# Altium footprint library VQFN-24P-001.PcbLib: 1 footprints
Each footprint in its own frame and in the unit in brackets; x right, y up, seen from the top. Pads: shape width x height; smd on the part's side, far side on the other; paste and mask are expansions set on the pad; w line width, h text height; cw(c..) or ccw(c..) is an arc to the next point about the centre after c.
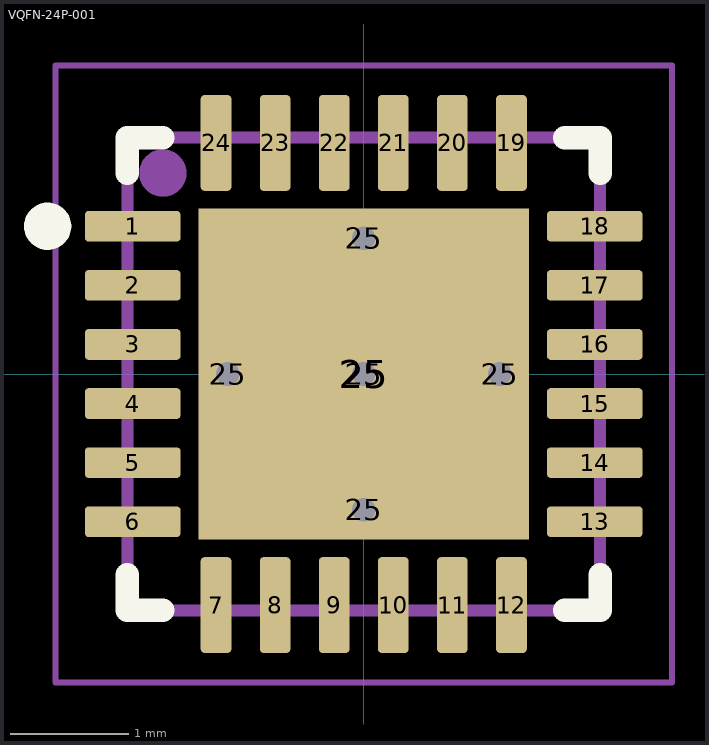
[diagram p0: the footprint, top view; thin cyan lines are the x and y axes]

## VQFN-24P-001 [mm]
height 1
pads (30):
  rrect25% 0.81x0.26 smd mask+0.038: 1(-1.955,1.25) 2(-1.955,0.75) 3(-1.955,0.25) 4(-1.955,-0.25) 5(-1.955,-0.75) 6(-1.955,-1.25) 13(1.955,-1.25) 14(1.955,-0.75) 15(1.955,-0.25) 16(1.955,0.25) 17(1.955,0.75) 18(1.955,1.25)
  rrect25% 0.26x0.81 smd mask+0.038: 7(-1.25,-1.955) 8(-0.75,-1.955) 9(-0.25,-1.955) 10(0.25,-1.955) 11(0.75,-1.955) 12(1.25,-1.955) 19(1.25,1.955) 20(0.75,1.955) 21(0.25,1.955) 22(-0.25,1.955) 23(-0.75,1.955) 24(-1.25,1.955)
  round 0.4 hole 0.2 mask+0: 25(-1.15,0) 25(0,-1.15) 25(0,0) 25(0,1.15) 25(1.15,0)
  rect 2.8x2.8 smd paste-2 mask+0: 25(0,0)
Top Overlay:
  circle w0.2: c-2.675,1.25 r0.1
  lines w0.2: -2,-1.7 -2,-2 -1.7,-2 ; -2,1.7 -2,2 -1.7,2 ; 1.7,-2 2,-2 2,-1.7 ; 1.7,2 2,2 2,1.7
Top Paste:
  region: 1.33,-1.33 0.1,-1.33 0.1,-0.1 1.33,-0.1
  region: -0.1,-1.33 -1.33,-1.33 -1.33,-0.1 -0.1,-0.1
  region: 1.33,0.1 0.1,0.1 0.1,1.33 1.33,1.33
  region: -0.1,0.1 -1.33,0.1 -1.33,1.33 -0.1,1.33
Top Assembly:
  circle w0.2: c-1.7,1.7 r0.1
  lines w0.1: -2,-2 2,-2 2,2 -2,2 -2,-2
Top Courtyard:
  lines w0.05: -2.61,-2.61 -2.61,2.61 2.61,2.61 2.61,-2.61 -2.61,-2.61
  lines w0.1: -0.3,0 0.3,0 ; 0,-0.3 0,0.3
Top Designator:
  text ".Designator" at -4.998,-0.333 h1
3D body "DRV8701ERGER.STEP": height 1, standoff 0, extent -2,-2 2,2